# EAGLE library part PAN1321 (library PAN1321)
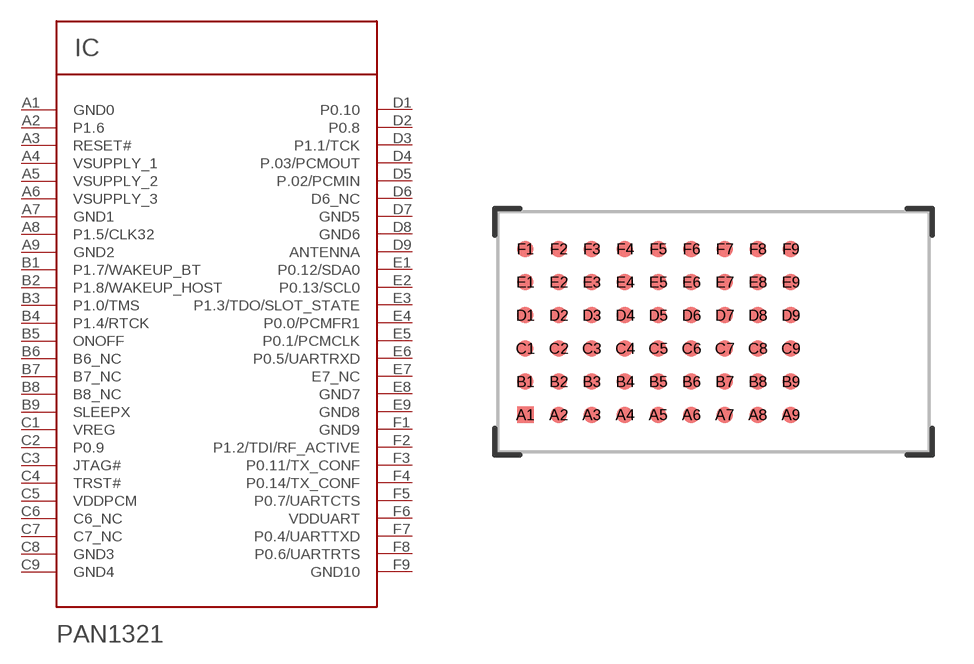
[diagram p0: symbol with the pads of PAN1321_FP; footprint PAN1321_FP]

Designator prefix IC

## PAN1321  [PAN1321_FP]
A1  GND0
A2  P1.6
A3  RESET#
A4  VSUPPLY_1
A5  VSUPPLY_2
A6  VSUPPLY_3
A7  GND1
A8  P1.5/CLK32
A9  GND2
B1  P1.7/WAKEUP_BT
B2  P1.8/WAKEUP_HOST
B3  P1.0/TMS
B4  P1.4/RTCK
B5  ONOFF
B6  B6_NC
B7  B7_NC
B8  B8_NC
B9  SLEEPX
C1  VREG
C2  P0.9
C3  JTAG#
C4  TRST#
C5  VDDPCM
C6  C6_NC
C7  C7_NC
C8  GND3
C9  GND4
D1  P0.10
D2  P0.8
D3  P1.1/TCK
D4  P.03/PCMOUT
D5  P.02/PCMIN
D6  D6_NC
D7  GND5
D8  GND6
D9  ANTENNA
E1  P0.12/SDA0
E2  P0.13/SCL0
E3  P1.3/TDO/SLOT_STATE
E4  P0.0/PCMFR1
E5  P0.1/PCMCLK
E6  P0.5/UARTRXD
E7  E7_NC
E8  GND7
E9  GND8
F1  GND9
F2  P1.2/TDI/RF_ACTIVE
F3  P0.11/TX_CONF
F4  P0.14/TX_CONF
F5  P0.7/UARTCTS
F6  VDDUART
F7  P0.4/UARTTXD
F8  P0.6/UARTRTS
F9  GND10

## Footprint PAN1321_FP (pad centres in mm)
smd 0.6 x 0.6: A1 -4.8,-3; A2 -3.6,-3; A3 -2.4,-3; A4 -1.2,-3; A5 0,-3; A6 1.2,-3; A7 2.4,-3; A8 3.6,-3; A9 4.8,-3; B1 -4.8,-1.8; B2 -3.6,-1.8; B3 -2.4,-1.8; B4 -1.2,-1.8; B5 0,-1.8; B6 1.2,-1.8; B7 2.4,-1.8; B8 3.6,-1.8; B9 4.8,-1.8; C1 -4.8,-0.6; C2 -3.6,-0.6; C3 -2.4,-0.6; C4 -1.2,-0.6; C5 0,-0.6; C6 1.2,-0.6; C7 2.4,-0.6; C8 3.6,-0.6; C9 4.8,-0.6; D1 -4.8,0.6; D2 -3.6,0.6; D3 -2.4,0.6; D4 -1.2,0.6; D5 0,0.6; D6 1.2,0.6; D7 2.4,0.6; D8 3.6,0.6; D9 4.8,0.6; E1 -4.8,1.8; E2 -3.6,1.8; E3 -2.4,1.8; E4 -1.2,1.8; E5 0,1.8; E6 1.2,1.8; E7 2.4,1.8; E8 3.6,1.8; E9 4.8,1.8; F1 -4.8,3; F2 -3.6,3; F3 -2.4,3; F4 -1.2,3; F5 0,3; F6 1.2,3; F7 2.4,3; F8 3.6,3; F9 4.8,3